# EAGLE library part AD7685 (library SLIM)
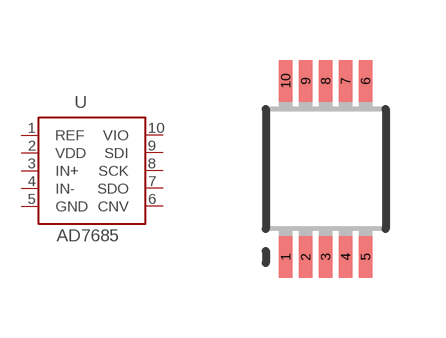
[diagram p1: symbol with the pads of MSOP10; footprint MSOP10]

Designator prefix U

## AD7685  [MSOP10]
1  REF  in
2  VDD  pwr
3  IN+  in
4  IN-  in
5  GND  pwr
6  CNV  in
7  SDO  out
8  SCK  in
9  SDI  in
10  VIO  pwr

## Footprint MSOP10 (pad centres in mm)
smd 0.34 x 1.04: 1 -1,-2.2; 2 -0.5,-2.2; 3 0,-2.2; 4 0.5,-2.2; 5 1,-2.2; 6 1,2.2; 7 0.5,2.2; 8 0,2.2; 9 -0.5,2.2; 10 -1,2.2